# Altium footprint library RF101AD0075M.PcbLib: 1 footprints
Each footprint in its own frame and in the unit in brackets; x right, y up, seen from the top. Pads: shape width x height; smd on the part's side, far side on the other; paste and mask are expansions set on the pad; w line width, h text height; cw(c..) or ccw(c..) is an arc to the next point about the centre after c.
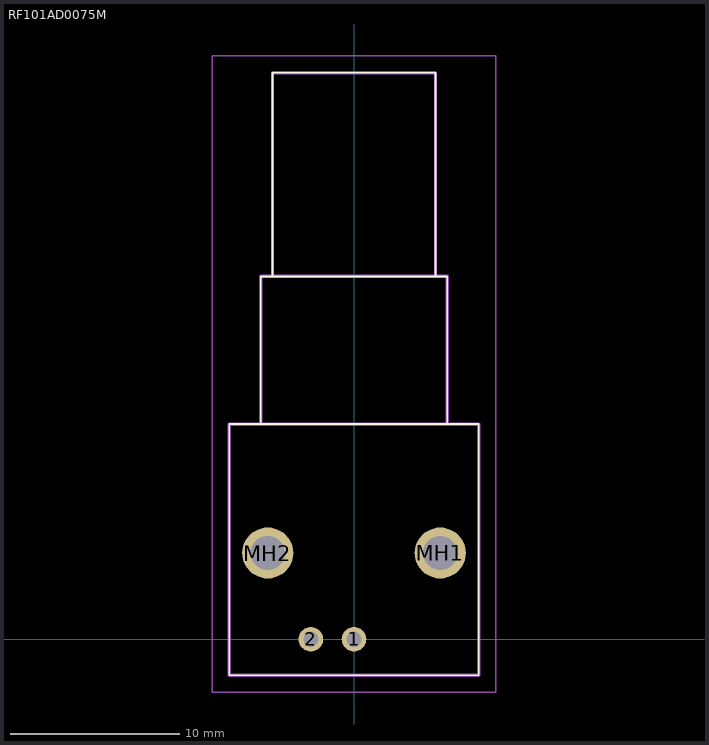
[diagram p0: the footprint, top view; thin cyan lines are the x and y axes]

## RF101AD0075M [mm]
pads (4):
  round 1.446 hole 0.89: 1(0,0) 2(-2.54,0)
  round 3.015 hole 2.01: MH1(5.08,5.08) MH2(-5.08,5.08)
Top Overlay:
  lines w0.1: -5.5,12.68 -5.5,21.38 5.5,21.38 5.5,12.68 ; -4.8,21.38 -4.8,33.38 4.8,33.38 4.8,21.38 ; -7.35,-2.12 7.35,-2.12 7.35,12.68 -7.35,12.68 -7.35,-2.12
Mechanical 15:
  lines w0.2: -5.5,12.68 -5.5,21.38 5.5,21.38 5.5,12.68 ; -4.8,21.38 -4.8,33.38 4.8,33.38 4.8,21.38 ; -7.35,-2.12 7.35,-2.12 7.35,12.68 -7.35,12.68 -7.35,-2.12
Mechanical 20:
  lines w0.1: -8.35,-3.12 8.35,-3.12 8.35,34.38 -8.35,34.38 -8.35,-3.12